# EAGLE library part GPIO_PADS2 (library SobieskiSat2)
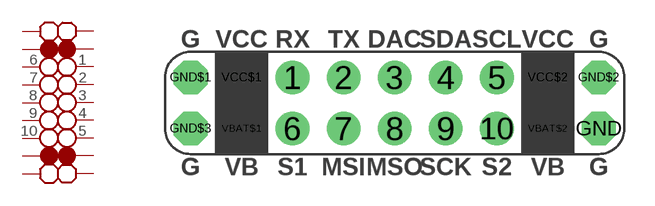
[diagram p20: symbol with the pads of GPIO_PADS2; footprint GPIO_PADS2]

Designator prefix -

## GPIO_PADS2  [GPIO_PADS2]
1  1
2  2
3  3
4  4
5  5
6  6
7  7
8  8
9  9
10  10
GND  GND$1
GND$1  GND$2
GND$2  GND$3
GND$3  GND$4
VBAT$1  VBAT$1
VBAT$2  VBAT$2
VCC$1  VCC$1
VCC$2  VCC$2

## Footprint GPIO_PADS2 (pad centres in mm)
drill 1.016 pad 1.676: 1 -5.08,1.27; 2 -2.54,1.27; 3 0,1.27; 4 2.54,1.27; 5 5.08,1.27; 6 -5.08,-1.27; 7 -2.54,-1.27; 8 0,-1.27; 9 2.54,-1.27; 10 5.08,-1.27; VBAT$1 -7.62,-1.27; VBAT$2 7.62,-1.27; VCC$1 -7.62,1.27; VCC$2 7.62,1.27
drill 1.016 pad 1.676 octagon: GND 10.16,-1.27; GND$1 -10.16,1.27; GND$2 10.16,1.27; GND$3 -10.16,-1.27